# EAGLE library part UC38XX (library linear)
SMPS CONTROLLER
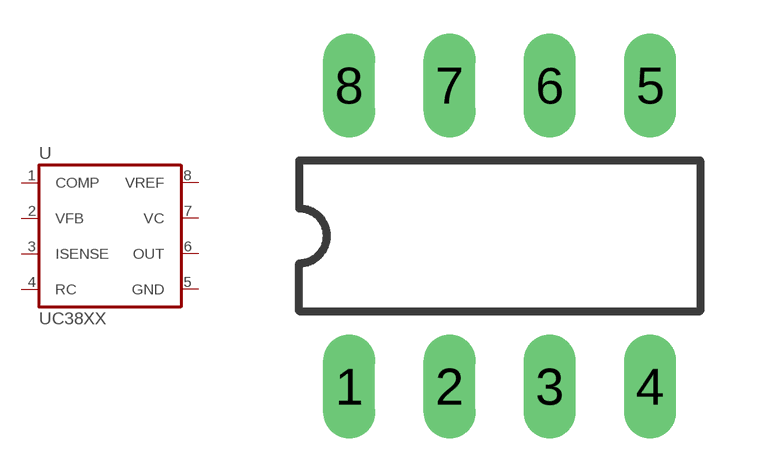
[diagram p201: symbol with the pads of DIL08; footprint DIL08]

Designator prefix U

## UC38XX  [DIL08]
1  COMP  pas
2  VFB  pas
3  ISENSE  pas
4  RC  pas
5  GND  pas
6  OUT  out
7  VC  pas
8  VREF  pas

## Footprint DIL08 (pad centres in mm)
Dual In Line Package
drill 0.813 long: 1 -3.81,-3.81; 2 -1.27,-3.81; 3 1.27,-3.81; 4 3.81,-3.81; 5 3.81,3.81; 6 1.27,3.81; 7 -1.27,3.81; 8 -3.81,3.81